# EAGLE library part USB_A_PLUG (library xess)
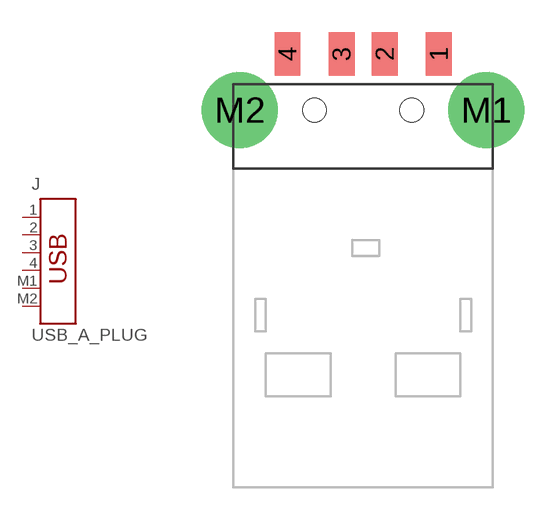
[diagram p83: symbol with the pads of KUSB_SMT2_APXS_X; footprint KUSB_SMT2_APXS_X]

Designator prefix J

## USB_A_PLUG  [KUSB_SMT2_APXS_X]
1  1  pas
2  2  pas
3  3  pas
4  4  pas
M1  CGND1  pas
M2  CGND2  pas

## Footprint KUSB_SMT2_APXS_X (pad centres in mm)
smd 1.2 x 2: 1 3.5,2.6; 2 1,2.6; 3 -1,2.6; 4 -3.5,2.6
drill 2.5 round: M1 5.7,0; M2 -5.7,0
hole 1.1 at 2.25,0
hole 1.1 at -2.25,0